# EAGLE library part MAGJACK (library custom)
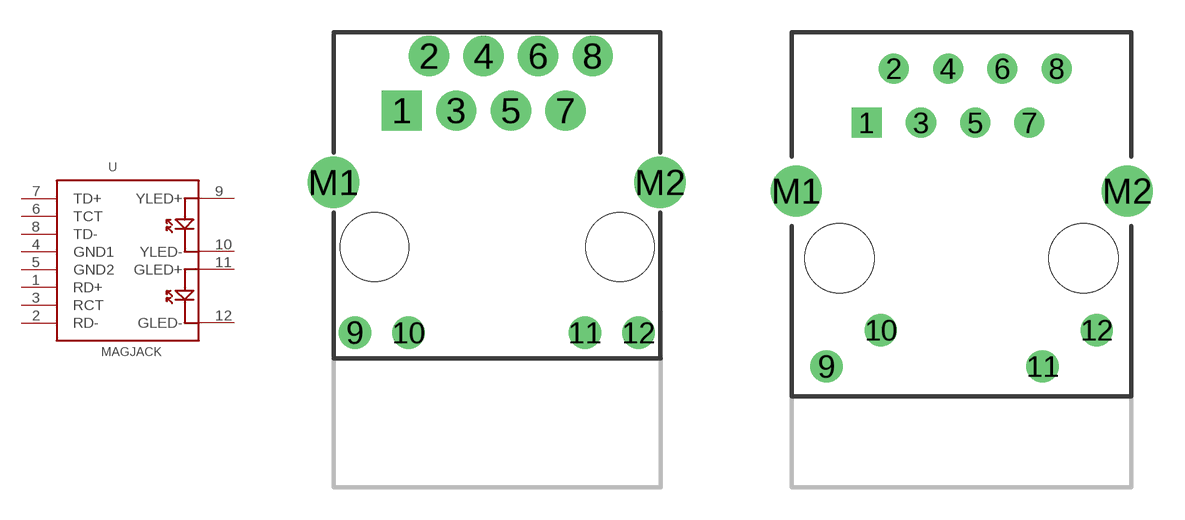
[diagram p13: symbol with the pads of MAGJACK; footprints MAGJACK, MAGJACK2]

Designator prefix -

## MAGJACK-SFU  [MAGJACK]
1  RD+
2  RD-
3  RCT
4  GND1
5  GND2
6  TCT
7  TD+
8  TD-
9  YLED+
10  YLED-
11  GLED+
12  GLED-

## MAGJACK-CC  [MAGJACK2]
1  RD+
2  RD-
3  RCT
4  GND1
5  GND2
6  TCT
7  TD+
8  TD-
9  GLED+
10  GLED-
11  YLED-
12  YLED+

## Footprint MAGJACK (pad centres in mm)
drill 1 pad 1.88 square: 1 3.175,17.445
drill 1 pad 1.88 round: 2 4.445,19.985; 3 5.715,17.445; 4 6.985,19.985; 5 8.255,17.445; 6 9.525,19.985; 7 10.795,17.445; 8 12.065,19.985
drill 1 pad 1.27 round: 9 1,7.1; 10 3.5,7.1; 11 11.7,7.1; 12 14.2,7.1
drill 1.6 pad 2.184 round: M1 0,14.1; M2 15.2,14.1
hole 3.2 at 1.905,11.095
hole 3.2 at 13.335,11.095

## Footprint MAGJACK2 (pad centres in mm)
4UCON 19154 Cool Components <http://www.coolcomponents.co.uk/catalog/product_info.php?products_id=537>
drill 0.9 square: 1 -4.445,6.35
drill 0.9 round: 2 -3.175,8.89; 3 -1.905,6.35; 4 -0.635,8.89; 5 0.635,6.35; 6 1.905,8.89; 7 3.175,6.35; 8 4.445,8.89
drill 1 round: 9 -6.325,-5.08; 10 -3.785,-3.38; 11 3.785,-5.08; 12 6.325,-3.38
drill 1.6 round: M1 -7.75,3.15; M2 7.75,3.15
hole 3.25 at -5.715,0
hole 3.25 at 5.715,0